# Altium footprint library 接线端子封装库.PcbLib: 73 footprints (part 4 of 5)
Each footprint in its own frame and in the unit in brackets; x right, y up, seen from the top. Pads: shape width x height; smd on the part's side, far side on the other; paste and mask are expansions set on the pad; w line width, h text height; cw(c..) or ccw(c..) is an arc to the next point about the centre after c.
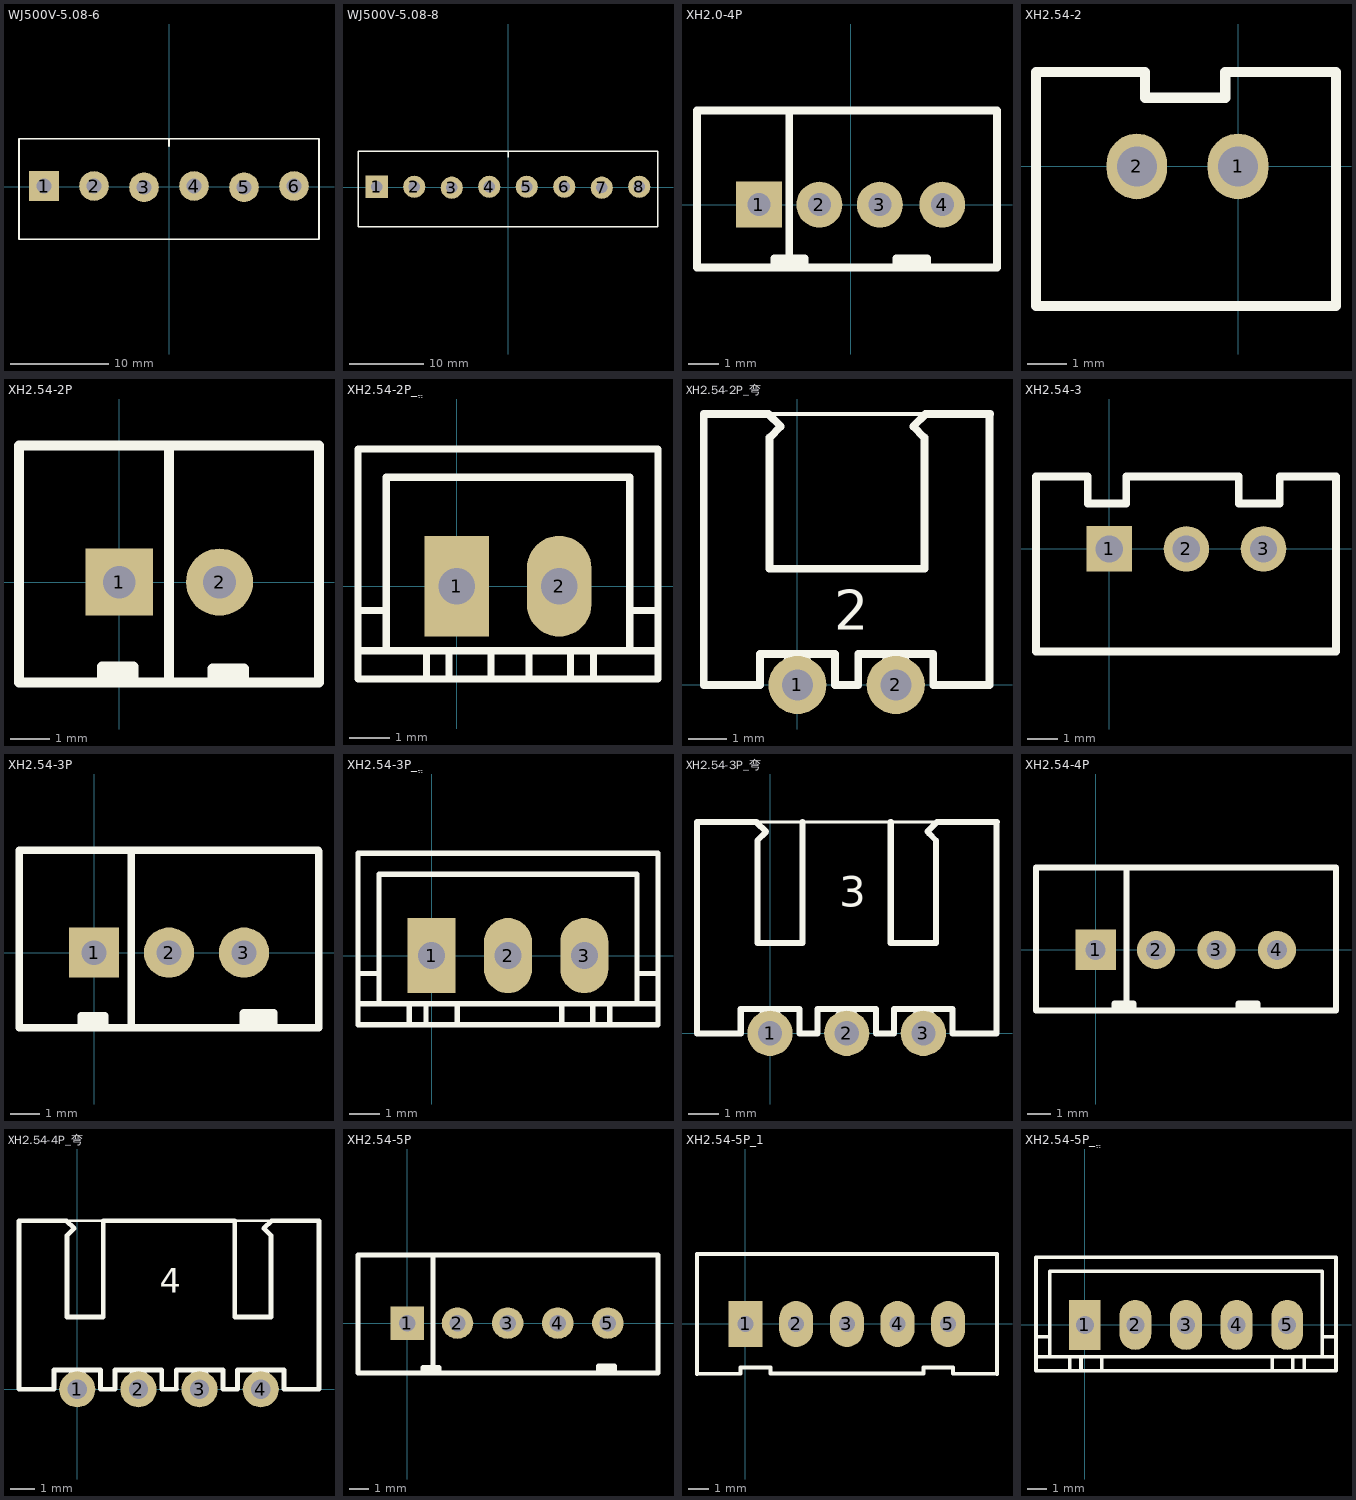
[diagram p3: the footprints below, top view; thin cyan lines are the x and y axes]

## WJ500V-5.08-6 [mm]
pads (6):
  rect 3x3 hole 1.5: 1(-12.7,0.064)
  round 3 hole 1.5: 2(-7.62,0.064) 3(-2.54,-0.064) 4(2.54,0.064) 5(7.62,-0.064) 6(12.7,0.064)
Top Overlay:
  lines w0.2: 0,4.102 0,4.864 ; -15.24,-5.347 -15.24,4.864 15.24,4.864 15.24,-5.347 -15.24,-5.347
3D body: height 10, standoff -3.5, extent -15.525,-5.08 15.525,3.02

## WJ500V-5.08-8 [mm]
pads (8):
  rect 3x3 hole 1.5: 1(-17.78,0.064)
  round 3 hole 1.5: 2(-12.7,0.064) 3(-7.62,-0.064) 4(-2.54,0.064) 5(2.54,0.064) 6(7.62,0.064) 7(12.7,-0.064) 8(17.78,0.064)
Top Overlay:
  lines w0.2: 0,4.064 0,4.826 ; -20.32,-5.347 20.32,-5.347 20.32,4.864 -20.32,4.864 -20.32,-5.347
3D body: height 10, standoff -3.5, extent -20.351,-4.064 20.859,4.036

## XH2.0-4P [mil]
pads (4):
  rect 60x60 hole 30: 1(-119.76,0)
  round 60 hole 30: 2(-40.76,0) 3(38.24,0) 4(119.76,0)
Top Overlay:
  lines w10: -95.76,-82 -200.76,-82 ; -80,-80 -80,120 ; 1.24,-82 191.26,-82 191.26,123 -200.76,123 -200.76,-82 ; 119.24,-82 -200.76,-82 ; -100,-80 -60,-80 -60,-70 -100,-70 -100,-80 ; 60,-80 100,-80 100,-70 60,-70 60,-80

## XH2.54-2 [mil]
pads (2):
  oval 60x65 hole 39.37: 1(0,0) 2(-100.1,0)
Top Overlay:
  lines w10: -200,-138 97,-138 97,93.3 66.2,93.3 -12.6,93.3 -12.6,68 -92.1,68 -92.1,93.3 -200,93.3 -200,-138
3D body: height 275.59, standoff -118.11, extent -197.64,-142.11 97.64,94.11

## XH2.54-2P [mm]
pads (2):
  rect 1.7x1.7 hole 0.83: 1(0,0)
  round 1.7 hole 0.83: 2(2.54,0)
Top Overlay:
  lines w0.254: -0.44,-2.44 -0.44,-2.14 0.36,-2.14 0.36,-2.44 ; -0.39,-2.29 0.36,-2.29 ; 1.26,-2.39 1.26,3.46 ; 2.36,-2.49 2.36,-2.19 3.16,-2.19 3.16,-2.49 ; 2.36,-2.34 3.16,-2.34 ; -2.54,-2.54 5.06,-2.54 5.06,3.46 -2.54,3.46 -2.54,-2.54
3D body: height 7, standoff -3.4, extent -2.447,-2.367 4.953,3.383

## XH2.54-2P_ֱ [mm]
pads (2):
  rect 1.6x2.5 hole 0.9: 1(0,0)
  oval 1.6x2.5 hole 0.9: 2(2.54,0)
Top Overlay:
  lines w0.178: -2.45,-1.6 -1.75,-1.6 ; -2.45,-0.6 -1.75,-0.6 ; -2.45,3.4 -2.45,-2.3 4.99,-2.3 4.99,3.4 -2.44,3.4 ; -0.75,-2.3 -0.75,-1.6 ; -0.19,-2.29 -0.19,-1.6 ; 0.85,-2.3 0.85,-1.6 ; 1.79,-2.3 1.79,-1.6 ; 2.82,-2.3 2.82,-1.6 ; 3.39,-2.3 3.39,-1.6 ; 4.29,-0.6 4.99,-0.6 ; 4.99,-1.6 4.29,-1.6 ; -1.75,-1.6 4.29,-1.6 ; -1.75,-1.6 -1.75,2.7 4.29,2.7 4.29,-1.6

## XH2.54-2P_弯 [mm]
pads (2):
  round 1.5 hole 0.8: 1(0,0) 2(2.54,0)
Top Overlay:
  lines w0.1: -0.77,7 3.33,7
  lines w0.2: 4.12,0 3.51,0 ; 4.96,7 4.96,0 3.51,0 ; 4.98,7 3.31,7 2.99,6.68 3.28,6.39 3.28,3 -0.72,3 -0.72,6.39 -0.43,6.68 -0.75,7 -2.42,7 -2.42,0 -1.57,0 -1.27,0 -0.97,0 -0.97,0.8 0.97,0.8 0.97,0 1.57,0 1.57,0.8 3.51,0.8 3.51,0
  lines w0.762: 0,0 0,0.518 ; 2.54,0 2.54,0.518
  text "2" at 0.95,1.43 h1.02

## XH2.54-3 [mm]
pads (3):
  rect 1.5x1.5 hole 0.9: 1(0,0)
  round 1.5 hole 0.9: 2(2.54,0) 3(5.08,0)
Top Overlay:
  lines w0.254: -2.413,-3.378 7.468,-3.378 7.468,2.388 5.613,2.388 5.613,1.5 4.267,1.5 4.267,2.388 0.559,2.388 0.559,1.5 -0.711,1.5 -0.711,2.388 -2.413,2.388 -2.413,-3.378
3D body: height 7, standoff -3.4, extent -2.41,-3.408 7.49,2.342

## XH2.54-3P [mm]
pads (3):
  rect 1.7x1.7 hole 0.83: 1(0,0)
  round 1.7 hole 0.83: 2(2.54,0) 3(5.08,0)
Top Overlay:
  lines w0.254: -0.44,-2.44 -0.44,-2.14 0.36,-2.14 0.36,-2.44 ; -0.39,-2.29 0.36,-2.29 ; 1.26,-2.39 1.26,3.46 ; 5.207,-2.286 5.969,-2.286 6.096,-2.413 6.096,-2.032 5.08,-2.032 5.06,-2.052 5.06,-2.54 ; 5.06,-2.54 -2.54,-2.54 -2.54,3.46 5.06,3.46 7.589,3.46 7.62,3.429 7.62,-2.54 5.06,-2.54
3D body: height 7, standoff -3.5, extent -2.41,-2.35 7.49,3.4

## XH2.54-3P_ֱ [mm]
pads (3):
  rect 1.6x2.5 hole 0.9: 1(0,0)
  oval 1.6x2.5 hole 0.9: 2(2.54,0) 3(5.08,0)
Top Overlay:
  lines w0.178: -2.45,-1.6 -1.75,-1.6 ; -2.45,-0.6 -1.75,-0.6 ; -2.45,3.4 -2.45,-2.3 7.53,-2.3 7.53,3.4 -2.44,3.4 ; -0.75,-2.3 -0.75,-1.6 ; -0.19,-2.29 -0.19,-1.6 ; 0.85,-2.3 0.85,-1.6 ; 4.33,-2.3 4.33,-1.6 ; 5.36,-2.3 5.36,-1.6 ; 5.93,-2.3 5.93,-1.6 ; 6.83,-0.6 7.53,-0.6 ; 7.53,-1.6 6.83,-1.6 ; -1.75,-1.6 6.83,-1.6 ; -1.75,-1.6 -1.75,2.7 6.83,2.7 6.83,-1.6

## XH2.54-3P_弯 [mm]
pads (3):
  round 1.5 hole 0.8: 1(0,0) 2(2.54,0) 3(5.08,0)
Top Overlay:
  lines w0.1: 1.08,7 -0.46,7 5.53,7
  lines w0.2: 1.08,7 1.08,3 -0.42,3 -0.42,6.39 -0.13,6.68 -0.45,7 -2.42,7 -2.42,0 -1.57,0 -1.27,0 -0.97,0 -0.97,0.8 0.97,0.8 0.97,0 1.57,0 1.57,0.8 3.51,0.8 3.51,0 4.11,0 4.11,0.8 6.05,0.8 6.05,0 ; 4,7 4,3 5.5,3 5.5,6.39 5.27,6.62 ; 5.21,6.68 5.53,7 7.52,7 ; 6.66,0 6.05,0 ; 7.5,7 7.5,0 6.05,0
  lines w0.762: 0,0 0,0.518 ; 2.54,0 2.54,0.518 ; 5.08,0 5.08,0.518
  text "3" at 2.29,4.2 h1.02

## XH2.54-4P [mm]
height 1.99
pads (4):
  rect 1.7x1.7 hole 0.83: 1(0,0)
  round 1.6 hole 0.83: 2(2.54,0) 3(5.08,0) 4(7.62,0)
Top Overlay:
  lines w0.254: 0.8,-2.54 0.8,-2.24 1.6,-2.24 1.6,-2.54 ; 0.85,-2.39 1.6,-2.39 ; 1.3,-2.39 1.3,3.46 ; 6,-2.54 6,-2.24 6.8,-2.24 6.8,-2.54 ; 6,-2.39 6.8,-2.39 ; -2.5,-2.54 -2.5,3.46 10.1,3.46 10.1,-2.54 -2.5,-2.54
3D body: height 7, standoff -3.4, extent -2.37,-2.64 10.03,3.46

## XH2.54-4P_弯 [mm]
pads (4):
  round 1.5 hole 0.8: 1(0,0) 2(2.54,0) 3(5.08,0) 4(7.62,0)
Top Overlay:
  lines w0.1: -0.46,7 1.08,7 ; 6.54,7 8.08,7
  lines w0.2: 4.11,0 4.11,0.8 6.05,0.8 6.05,0 6.65,0 6.65,0.8 8.59,0.8 8.59,0 10.04,0 10.04,7 8.07,7 7.75,6.68 ; 4.12,0 3.51,0 3.51,0.8 1.57,0.8 1.57,0 0.97,0 0.97,0.8 -0.97,0.8 -0.97,0 -1.27,0 -1.57,0 -2.42,0 -2.42,7 -0.45,7 -0.13,6.68 -0.42,6.39 -0.42,3 1.08,3 1.08,7 6.54,7 6.54,3 8.04,3 8.04,6.39 7.81,6.62
  lines w0.762: 0,0 0,0.518 ; 2.54,0 2.54,0.518 ; 5.08,0 5.08,0.518 ; 7.62,0 7.62,0.518
  text "4" at 3.42,4 h1.02

## XH2.54-5P [mm]
height 1.99
pads (5):
  rect 1.7x1.7 hole 0.83: 1(0,0)
  round 1.6 hole 0.83: 2(2.54,0) 3(5.08,0) 4(7.62,0) 5(10.16,0)
Top Overlay:
  lines w0.254: 0.8,-2.54 0.8,-2.24 1.6,-2.24 1.6,-2.54 ; 0.85,-2.39 1.6,-2.39 ; 1.3,-2.39 1.3,3.46 ; -2.5,-2.54 12.7,-2.54 12.7,3.46 -2.5,3.46 -2.5,-2.54 ; 9.683,-2.413 10.483,-2.413 10.483,-2.184 9.683,-2.184 9.683,-2.413
3D body: height 7, standoff -3.4, extent -2.344,-2.418 12.555,3.332

## XH2.54-5P_1 [mm]
pads (5):
  rect 1.7x2.3 hole 0.8: 1(0.006,-0.01)
  oval 1.7x2.3 hole 0.8: 2(2.546,-0.01) 3(5.086,-0.01) 4(7.626,-0.01) 5(10.166,-0.01)
Top Overlay:
  lines w0.2: -2.426,-2.51 -0.248,-2.499 -0.248,-2.194 1.25,-2.194 1.25,-2.499 8.921,-2.499 8.921,-2.194 10.42,-2.194 10.42,-2.499 12.614,-2.51 12.614,3.49 -2.426,3.49 -2.426,-2.51

## XH2.54-5P_ֱ [mm]
pads (5):
  rect 1.6x2.5 hole 0.9: 1(0,0)
  oval 1.6x2.5 hole 0.9: 2(2.54,0) 3(5.08,0) 4(7.62,0) 5(10.16,0)
Top Overlay:
  lines w0.178: -2.45,-1.6 -1.75,-1.6 ; -2.45,-0.6 -1.75,-0.6 ; -2.45,3.4 -2.45,-2.3 12.61,-2.3 12.61,3.4 -2.44,3.4 ; -0.75,-2.3 -0.75,-1.6 ; -0.19,-2.29 -0.19,-1.6 ; 0.85,-2.3 0.85,-1.6 ; 9.41,-2.3 9.41,-1.6 ; 10.44,-2.3 10.44,-1.6 ; 11.01,-2.3 11.01,-1.6 ; 11.91,-0.6 12.61,-0.6 ; 12.61,-1.6 11.91,-1.6 ; -1.75,-1.6 -1.75,2.7 11.91,2.7 11.91,-1.6 ; -1.75,-1.6 11.91,-1.6